# Altium footprint library C64Interface.PcbLib: 28 footprints (part 1 of 2)
Each footprint in its own frame and in the unit in brackets; x right, y up, seen from the top. Pads: shape width x height; smd on the part's side, far side on the other; paste and mask are expansions set on the pad; w line width, h text height; cw(c..) or ccw(c..) is an arc to the next point about the centre after c.
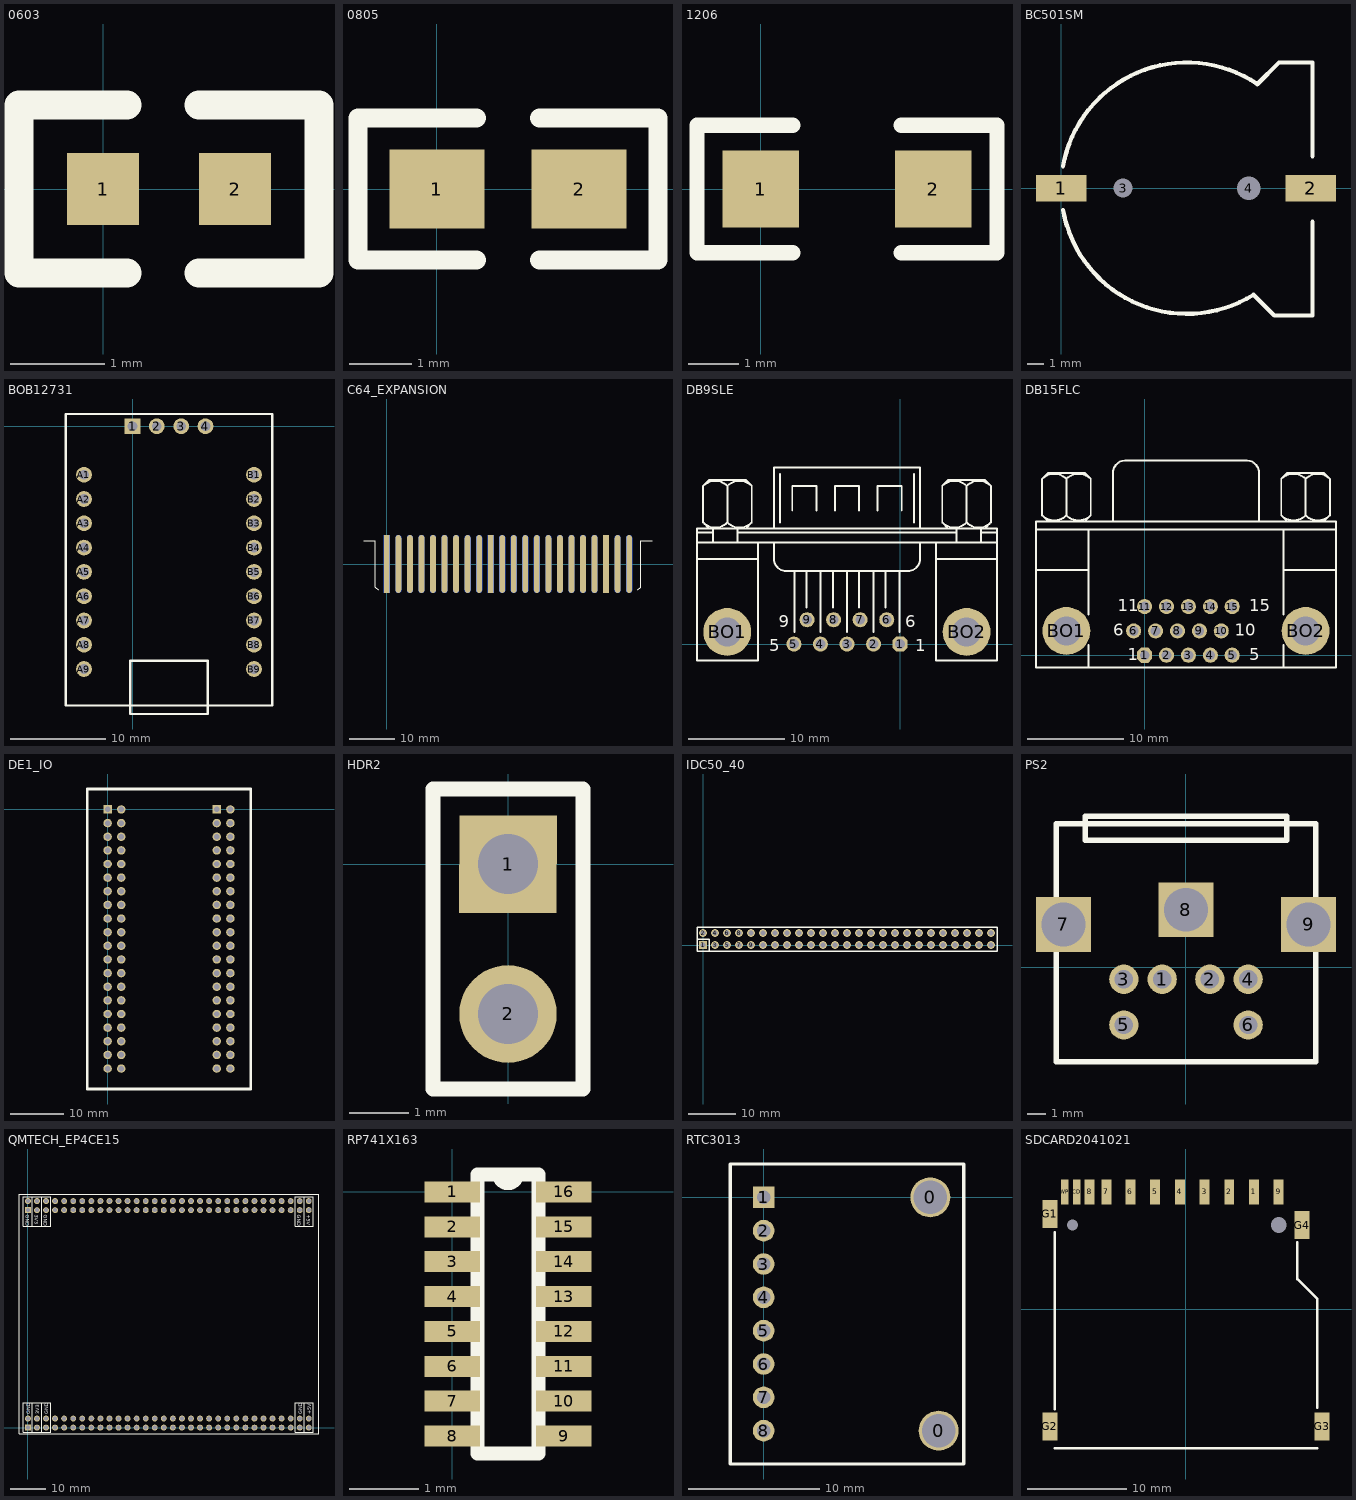
[diagram p0: the footprints below, top view; thin cyan lines are the x and y axes]

## 0603 [mil]
pads (2):
  rect 30x30 smd: 1(0,0) 2(55,0)
Top Overlay:
  lines w12: 10,-35 -35,-35 -35,35 10,35 ; 40,-35 90,-35 90,35 40,35

## 0805 [mil]
pads (2):
  rect 60x50 smd: 1(0,0) 2(90,0)
Top Overlay:
  lines w12: 25,-45 -50,-45 -50,45 25,45 ; 65,-45 140,-45 140,45 65,45

## 1206 [mil]
pads (2):
  rect 60x60 smd: 1(0,0) 2(135,0)
Top Overlay:
  lines w12: 25,-50 -50,-50 -50,50 25,50 ; 110,-50 185,-50 185,50 110,50

## BC501SM [mm]
pads (4):
  rect 3x1.6 smd mask+0.254: 1(0,0) 2(14.9,0)
  round 1 hole 1.14 unplated mask+0.254: 3(3.7,0)
  round 1 hole 1.4 unplated mask+0.254: 4(11.2,0)
Top Overlay:
  lines w0.254: 0.114,-1.302 ccw(c7.5,0) 11.474,-6.36 12.714,-7.6 15,-7.6 15,-2 ; 0.114,1.302 cw(c7.5,0) 11.694,6.218 ; 11.7,6.2 13,7.5 15,7.5 15,1.9

## BOB12731 [mil]
pads (22):
  rect 65x65 hole 40: 1(0,0)
  round 65 hole 40: 2(100,0) 3(200,0) 4(300,0) A1(-200,-200) A2(-200,-300) A3(-200,-400) A4(-200,-500) A5(-200,-600) A6(-200,-700) A7(-200,-800) A8(-200,-900) A9(-200,-1000) B1(500,-200) B2(500,-300) B3(500,-400) B4(500,-500) B5(500,-600) B6(500,-700) B7(500,-800) B8(500,-900) B9(500,-1000)
Top Overlay:
  lines w10: -275,-1150 -275,50 575,50 575,-1150 -275,-1150 ; -10,-1185 -10,-965 310,-965 310,-1185 -10,-1185

## C64_EXPANSION [mil]
pads (44):
  rect 50x500 smd mask+10: A1(0,0) A10(900,0) A20(1900,0)
  oval 50x500 smd mask+10: A2(100,0) A3(200,0) A4(300,0) A5(400,0) A6(500,0) A7(600,0) A8(700,0) A9(800,0) A11(1000,0) A12(1100,0) A13(1200,0) A14(1300,0) A15(1400,0) A16(1500,0) A17(1600,0) A18(1700,0) A19(1800,0) A21(2000,0) A22(2100,0)
  rect 50x500 smd far side mask+10: B1(0,0) B10(900,0) B20(1900,0)
  oval 50x500 smd far side mask+10: B2(100,0) B3(200,0) B4(300,0) B5(400,0) B6(500,0) B7(600,0) B8(700,0) B9(800,0) B11(1000,0) B12(1100,0) B13(1200,0) B14(1300,0) B15(1400,0) B16(1500,0) B17(1600,0) B18(1700,0) B19(1800,0) B21(2000,0) B22(2100,0)
Top Overlay:
  lines w10: -200,200 -100,200 -100,-200 -75,-225 ; 2175,-225 2200,-200 2200,200 2300,200

## DB9SLE [mil]
pads (11):
  oct 62x62 hole 40: 1(0,0)
  round 62 hole 40: 2(-109.17,0) 3(-218.33,0) 4(-327.5,0) 5(-436.67,0) 6(-55,100) 7(-164.17,100) 8(-273.33,100) 9(-382.5,100)
  round 196.67 hole 118.33: BO1(-710.83,50) BO2(273.33,50)
Top Overlay:
  lines w8: -835,350 -585,350 ; -835,416.67 398.33,416.67 ; -835,458.33 -768.33,458.33 ; -810.09,499.91 ccw(c-760,550) -709.91,499.91 ; -810.09,650.09 cw(c-760,600) -709.91,650.09 ; -785,475 -810,500 -810,650 -785,675 -635,675 -610,650 -610,500 -635,475 ; -768.33,416.67 -768.33,475 ; -710.09,499.91 ccw(c-660,550) -609.91,499.91 ; -710.09,650.09 cw(c-660,600) -609.91,650.09 ; -710,500 -710,650 ; -668.33,416.67 -668.33,475 ; -668.33,458.33 231.67,458.33 ; -585,416.67 -585,-66.67 -835,-66.67 -835,475 398.33,475 398.33,-66.67 148.33,-66.67 148.33,416.67 ; -518.33,416.67 -518.33,350 ccw(c-468.33,350) -468.33,300 31.67,300 ccw(c31.67,350) 81.67,350 81.67,416.67 ; -518.33,475 -518.33,725 81.67,725 81.67,475 ; -493.33,500 -493.33,700 ; -443.33,550 -443.33,650 -343.33,650 -343.33,550 ; -435,50 -435,300 ; -385,150 -385,300 ; -326.67,50 -326.67,300 ; -276.67,150 -276.67,300 ; -268.33,550 -268.33,650 -168.33,650 -168.33,550 ; -218.33,50 -218.33,300 ; -168.33,150 -168.33,300 ; -110,50 -110,300 ; -93.33,550 -93.33,650 6.67,650 6.67,550 ; -60,150 -60,300 ; -1.67,50 -1.67,300 ; 56.67,500 56.67,700 ; 148.33,350 398.33,350 ; 173.25,499.91 ccw(c223.33,550) 273.42,499.91 ; 173.25,650.09 cw(c223.33,600) 273.42,650.09 ; 198.33,475 173.33,500 173.33,650 198.33,675 348.33,675 373.33,650 373.33,500 348.33,475 ; 231.67,416.67 231.67,475 ; 273.25,499.91 ccw(c323.33,550) 373.42,499.91 ; 273.25,650.09 cw(c323.33,600) 373.42,650.09 ; 273.33,500 273.33,650 ; 331.67,416.67 331.67,475 ; 331.67,458.33 398.33,458.33
  text "9" at -498.33,70 h50
  text "5" at -538.33,-30 h50
  text "6" at 21.67,70 h50
  text "1" at 61.67,-30 h50

## DB15FLC [mil]
pads (17):
  oct 62x62 hole 40: 1(0,0)
  round 62 hole 40: 2(90,0) 3(180,0) 4(270,0) 5(360,0) 6(-45,100) 7(45,100) 8(135,100) 9(225,100) 10(315,100) 11(0,200) 12(90,200) 13(180,200) 14(270,200) 15(360,200)
  round 196.67 hole 118.33: BO1(-321.67,100) BO2(661.67,100)
Top Overlay:
  lines w8: -446.67,350 -230,350 ; -446.67,516.67 786.67,516.67 ; -421.75,574.91 ccw(c-371.67,625) -321.58,574.91 ; -421.75,725.09 cw(c-371.67,675) -321.58,725.09 ; -396.67,550 -421.67,575 -421.67,725 -396.67,750 -246.67,750 -221.67,725 -221.67,575 -246.67,550 ; -321.75,574.91 ccw(c-271.67,625) -221.58,574.91 ; -321.75,725.09 cw(c-271.67,675) -221.58,725.09 ; -321.67,575 -321.67,725 ; -230,-50 -230,41.67 ; -230,166.67 -230,350 ; -230,516.67 -230,350 ; -130,550 -130,750 cw(c-80,750) -80,800 420,800 cw(c420,750) 470,750 470,550 ; 561.58,574.91 ccw(c611.67,625) 661.75,574.91 ; 561.58,725.09 cw(c611.67,675) 661.75,725.09 ; 570,-50 570,41.67 ; 570,166.67 570,350 ; 570,516.67 570,350 ; 586.67,550 561.67,575 561.67,725 586.67,750 736.67,750 761.67,725 761.67,575 736.67,550 ; 661.58,574.91 ccw(c711.67,625) 761.75,574.91 ; 661.58,725.09 cw(c711.67,675) 761.75,725.09 ; 661.67,575 661.67,725 ; 786.67,350 570,350 ; -446.67,-50 -446.67,550 786.67,550 786.67,-50 -446.67,-50
  text "5" at 430,-20 h50
  text "10" at 370,80 h50
  text "15" at 430,180 h50
  text "11" at -110,180 h50
  text "6" at -130,80 h50
  text "1" at -70,-20 h50

## DE1_IO [mil]
pads (80):
  rect 62x62 hole 40: A1(0,0) B1(800,0)
  round 62 hole 40: A2(100,0) A3(0,-100) A4(100,-100) A5(0,-200) A6(100,-200) A7(0,-300) A8(100,-300) A9(0,-400) A10(100,-400) A11(0,-500) A12(100,-500) A13(0,-600) A14(100,-600) A15(0,-700) A16(100,-700) A17(0,-800) A18(100,-800) A19(0,-900) A20(100,-900) A21(0,-1000) A22(100,-1000) A23(0,-1100) A24(100,-1100) A25(0,-1200) A26(100,-1200) A27(0,-1300) A28(100,-1300) A29(0,-1400) A30(100,-1400) A31(0,-1500) A32(100,-1500) A33(0,-1600) A34(100,-1600) A35(0,-1700) A36(100,-1700) A37(0,-1800) A38(100,-1800) A39(0,-1900) A40(100,-1900) B2(900,0) B3(800,-100) B4(900,-100) B5(800,-200) B6(900,-200) B7(800,-300) B8(900,-300) B9(800,-400) B10(900,-400) B11(800,-500) B12(900,-500) B13(800,-600) B14(900,-600) B15(800,-700) B16(900,-700) B17(800,-800) B18(900,-800) B19(800,-900) B20(900,-900) B21(800,-1000) B22(900,-1000) B23(800,-1100) B24(900,-1100) B25(800,-1200) B26(900,-1200) B27(800,-1300) B28(900,-1300) B29(800,-1400) B30(900,-1400) B31(800,-1500) B32(900,-1500) B33(800,-1600) B34(900,-1600) B35(800,-1700) B36(900,-1700) B37(800,-1800) B38(900,-1800) B39(800,-1900) B40(900,-1900)
Top Overlay:
  lines w20: -150,-2050 1050,-2050 1050,150 -150,150 -150,-2050

## HDR2 [mil]
pads (2):
  rect 65x65 hole 40: 1(0,0)
  round 65 hole 40: 2(0,-100)
Top Overlay:
  lines w10: -50,-150 50,-150 50,50 -50,50 -50,-150

## IDC50_40 [mil]
pads (50):
  rect 65x65 hole 40: 1(0,0)
  round 65 hole 40: 2(0,100) 3(100,0) 4(100,100) 5(200,0) 6(200,100) 7(300,0) 8(300,100) 9(400,0) 10(400,100) 11(500,0) 12(500,100) 13(600,0) 14(600,100) 15(700,0) 16(700,100) 17(800,0) 18(800,100) 19(900,0) 20(900,100) 21(1000,0) 22(1000,100) 23(1100,0) 24(1100,100) 25(1200,0) 26(1200,100) 27(1300,0) 28(1300,100) 29(1400,0) 30(1400,100) 31(1500,0) 32(1500,100) 33(1600,0) 34(1600,100) 35(1700,0) 36(1700,100) 37(1800,0) 38(1800,100) 39(1900,0) 40(1900,100) 41(2000,0) 42(2000,100) 43(2100,0) 44(2100,100) 45(2200,0) 46(2200,100) 47(2300,0) 48(2300,100) 49(2400,0) 50(2400,100)
Top Overlay:
  lines w12: -50,50 50,50 50,-50 ; -50,-50 2450,-50 2450,150 -50,150 -50,-50

## PS2 [mm]
pads (9):
  round 1.6 hole 1: 1(-1.3,-0.65) 2(1.3,-0.65) 3(-3.4,-0.65) 4(3.4,-0.65) 5(-3.4,-3.15) 6(3.4,-3.15)
  rect 3x3 hole 2.4: 7(-6.7,2.35) 8(0,3.15) 9(6.7,2.35)
Top Overlay:
  lines w0.305: -7.1,-5.15 -7.1,7.85 7.1,7.85 7.1,-5.15 -7.1,-5.15 ; -5.5,6.95 0,6.95 5.5,6.95 5.5,7.85 5.5,8.25 -5.5,8.25 -5.5,7.85 -5.5,6.95

## QMTECH_EP4CE15 [mil]
pads (128):
  rect 65x65 hole 45: A1(0,2400) B1(0,0)
  round 65 hole 45: A2(0,2500) A3(100,2400) A4(100,2500) A5(200,2400) A6(200,2500) A7(300,2400) A8(300,2500) A9(400,2400) A10(400,2500) A11(500,2400) A12(500,2500) A13(600,2400) A14(600,2500) A15(700,2400) A16(700,2500) A17(800,2400) A18(800,2500) A19(900,2400) A20(900,2500) A21(1000,2400) A22(1000,2500) A23(1100,2400) A24(1100,2500) A25(1200,2400) A26(1200,2500) A27(1300,2400) A28(1300,2500) A29(1400,2400) A30(1400,2500) A31(1500,2400) A32(1500,2500) A33(1600,2400) A34(1600,2500) A35(1700,2400) A36(1700,2500) A37(1800,2400) A38(1800,2500) A39(1900,2400) A40(1900,2500) A41(2000,2400) A42(2000,2500) A43(2100,2400) A44(2100,2500) A45(2200,2400) A46(2200,2500) A47(2300,2400) A48(2300,2500) A49(2400,2400) A50(2400,2500) A51(2500,2400) A52(2500,2500) A53(2600,2400) A54(2600,2500) A55(2700,2400) A56(2700,2500) A57(2800,2400) A58(2800,2500) A59(2900,2400) A60(2900,2500) A61(3000,2400) A62(3000,2500) A63(3100,2400) A64(3100,2500) B2(0,100) B3(100,0) B4(100,100) B5(200,0) B6(200,100) B7(300,0) B8(300,100) B9(400,0) B10(400,100) B11(500,0) B12(500,100) B13(600,0) B14(600,100) B15(700,0) B16(700,100) B17(800,0) B18(800,100) B19(900,0) B20(900,100) B21(1000,0) B22(1000,100) B23(1100,0) B24(1100,100) B25(1200,0) B26(1200,100) B27(1300,0) B28(1300,100) B29(1400,0) B30(1400,100) B31(1500,0) B32(1500,100) B33(1600,0) B34(1600,100) B35(1700,0) B36(1700,100) B37(1800,0) B38(1800,100) B39(1900,0) B40(1900,100) B41(2000,0) B42(2000,100) B43(2100,0) B44(2100,100) B45(2200,0) B46(2200,100) B47(2300,0) B48(2300,100) B49(2400,0) B50(2400,100) B51(2500,0) B52(2500,100) B53(2600,0) B54(2600,100) B55(2700,0) B56(2700,100) B57(2800,0) B58(2800,100) B59(2900,0) B60(2900,100) B61(3000,0) B62(3000,100) B63(3100,0) B64(3100,100)
Top Overlay:
  lines w10: 50,-50 -50,-50 -50,150 -50,275 50,275 ; 50,-50 50,150 50,275 ; 50,-50 150,-50 ; 50,275 150,275 ; 50,2225 -50,2225 -50,2550 50,2550 ; 50,2225 150,2225 ; 50,2225 50,2550 ; 50,2550 150,2550 ; 150,-50 150,275 ; 150,-50 250,-50 250,275 150,275 ; 150,2225 150,2350 150,2550 ; 150,2225 250,2225 250,2350 250,2550 150,2550 ; 3050,-50 2950,-50 2950,150 2950,275 3050,275 ; 3050,-50 3050,275 ; 3050,-50 3150,-50 3150,275 3050,275 ; 3050,2225 2950,2225 2950,2550 3050,2550 ; 3050,2225 3150,2225 3150,2350 3150,2550 3050,2550 ; 3050,2225 3050,2550 ; -98.43,-66.93 -98.43,2574.8 3212.6,2574.8 3212.6,-66.93 -98.43,-66.93
  text "GND" at 3025,150 h40
  text "+5V" at 3125,150 h40
  text "+5V" at 3075,2350 h40
  text "GND" at 2975,2350 h40
  text "3V3" at 75,2350 h40
  text "GND" at -25,2350 h40
  text "GND" at 175,2350 h40
  text "GND" at 25,150 h40
  text "GND" at 225,150 h40
  text "3V3" at 125,150 h40

## RP741X163 [mm]
pads (16):
  rect 0.8x0.3 smd: 1(0,0) 2(0,-0.5) 3(0,-1) 4(0,-1.5) 5(0,-2) 6(0,-2.5) 7(0,-3) 8(0,-3.5) 9(1.6,-3.5) 10(1.6,-3) 11(1.6,-2.5) 12(1.6,-2) 13(1.6,-1.5) 14(1.6,-1) 15(1.6,-0.5) 16(1.6,0)
Top Overlay:
  lines w0.2: 0.365,-3.75 1.235,-3.75 1.235,0.25 0.675,0.25 ccw(c0.8,0.25) 0.925,0.25 0.365,0.25 0.365,-3.75

## RTC3013 [mil]
pads (10):
  round 120 hole 100: 0(500,0) 0(525,-700)
  rect 65x65 hole 40: 1(0,0)
  round 65 hole 40: 2(0,-100) 3(0,-200) 4(0,-300) 5(0,-400) 6(0,-500) 7(0,-600) 8(0,-700)
Top Overlay:
  lines w10: -100,-800 600,-800 600,100 -100,100 -100,-800

## SDCARD2041021 [mm]
pads (17):
  rect 1x2.5 smd: 1(6.875,11.863) 2(4.375,11.863) 3(1.875,11.863) 4(-0.625,11.863) 5(-3.125,11.863) 6(-5.625,11.863) 7(-8.055,11.863) 8(-9.755,11.863) 9(9.375,11.863)
  rect 0.75x2.5 smd: CD(-11.055,11.863) WP(-12.255,11.863)
  rect 1.5x2.8 smd: G1(-13.775,9.638) G2(-13.775,-11.862) G3(13.775,-11.862) G4(11.75,8.513)
  round 0.5 hole 1.1 unplated: H(-11.5,8.513)
  round 0.5 hole 1.6 unplated: H(9.375,8.513)
Top Overlay:
  lines w0.254: -13.3,-14.087 13.3,-14.087 ; -13.3,-10.112 -13.3,7.763 ; 11.275,6.763 11.275,3.038 13.3,1.013 13.3,-9.987